# Altium schematic symbol library WH2004D.Schlib: 1 symbol
Pins are listed as number, name and electrical type; pins without a type are passive.

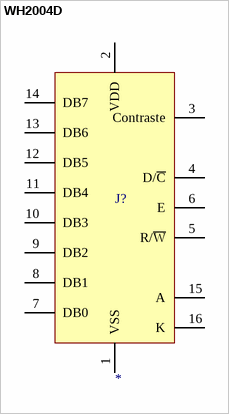
[diagram p0: symbol WH2004D]

## WH2004D
designator J?
pins: 1 VSS, 2 VDD, 3 Contraste, 4 D/~{C}, 5 R/~{W}, 6 E, 7 DB0, 8 DB1, 9 DB2, 10 DB3, 11 DB4, 12 DB5, 13 DB6, 14 DB7, 15 A, 16 K